# Altium schematic symbol library PCB_sch.SchLib: 14 symbols
Pins are listed as number, name and electrical type; pins without a type are passive.

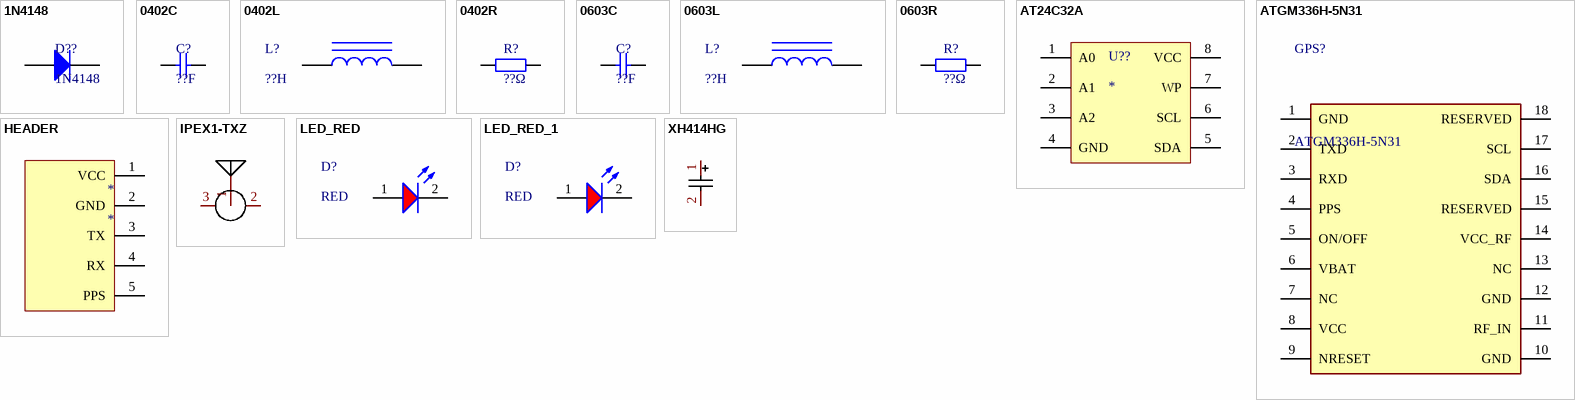
[diagram p0: symbols 1N4148 to XH414HG]

## 1N4148
designator D??
diode; ComponentLink1Description: 供应商链接; ComponentLink1URL: http://www.szlcsc.com/product/details_2485.html; Package: SOD-323; Supplier: LC; SuppliersPartNumber: C2128
footprint 1N4148
pins: 1 A, 2 K

## 0402C
designator C?, comment ??F
capacitance
footprint 0402_C (无极性贴片电容)
pins: 1, 2

## 0402L
designator L?, comment ??H
inductance; ComponentLink1Description: 供应商链接; ComponentLink1URL: http://www.szlcsc.com/product/details_1398.html; Package: 0805; Supplier: LC; SuppliersPartNumber: C1046
footprint 0402_L
pins: 1, 2

## 0402R
designator R?, comment ??Ω
resistance; ComponentLink1Description: 供应商链接; ComponentLink1URL: http://www.szlcsc.com/product/details_26562.html; Package: 0603; Supplier: LC; SuppliersPartNumber: C25819
footprint 0402_R (1/16W贴片电阻)
pins: 1, 2

## 0603C
designator C?, comment ??F
capacitance
footprint 0603_C (无极性贴片电容)
pins: 1, 2

## 0603L
designator L?, comment ??H
inductance; ComponentLink1Description: 供应商链接; ComponentLink1URL: http://www.szlcsc.com/product/details_1398.html; Package: 0805; Supplier: LC; SuppliersPartNumber: C1046
footprint 0603_L (小功率贴片电感)
pins: 1, 2

## 0603R
designator R?, comment ??Ω
resistance; ComponentLink1Description: 供应商链接; ComponentLink1URL: http://www.szlcsc.com/product/details_26562.html; Package: 0603; Supplier: LC; SuppliersPartNumber: C25819
footprint 0603_R
pins: 1, 2

## AT24C32A
designator U??
footprint AT24C32A (TSSOP-8_L3.0-W4.4-H1.0-LS6.4-P0.65)
pins: 1 A0, 2 A1, 3 A2, 4 GND, 5 SDA, 6 SCL, 7 WP, 8 VCC

## ATGM336H-5N31
designator GPS?
GSM & GPRS & GPS Modules 9.7X10.1mm RoHS; Manufacturer_Name: ZHONGKEWEI; Geometry.Height: 2.6mm; Manufacturer_Part_Number: ATGM336H-5N31; Mouser Part Number: *; Mouser Price/Stock: *; Arrow Part Number: *; Arrow Price/Stock: *; Datasheet Link: https://datasheet.lcsc.com/szlcsc/ZHONGKEWEI-ATGM336H-5N31_C90770.pdf
footprint ATGM336H-5N-31
pins: 1 GND, 2 TXD, 3 RXD, 4 PPS, 5 ON/OFF, 6 VBAT, 7 NC, 8 VCC, 9 NRESET, 10 GND, 11 RF_IN, 12 GND, 13 NC, 14 VCC_RF, 15 RESERVED, 16 SDA, 17 SCL, 18 RESERVED

## HEADER
designator *
footprint HEADER
pins: 1 VCC, 2 GND, 3 TX, 4 RX, 5 PPS

## IPEX1-TXZ
designator A??  (value not drawn)
Manufacturer: SHOU HAN(首韩); Name: IPEX1-TXZ 142; Add into BOM: yes; Symbol: IPEX1-TXZ 142; Device: IPEX1-TXZ 142; LCSC Part Name: IPEX天线座 内针 RF同轴连接器; Supplier Part: C3151745; Manufacturer Part: IPEX1-TXZ 142; Supplier Footprint: SMD; JLCPCB Part Class: Extended Part; Datasheet: https://atta.szlcsc.com/upload/public/pdf/source/20220627/A0C2EF411B6F3EC53ED1A4F491E26EB6.pdf; Supplier: LCSC; Convert to PCB: yes
footprint ipex1
pins: 1, 2, 3

## LED_RED
designator D?, comment RED
LED; ComponentLink1Description: 供应商链接; ComponentLink1URL: http://www.szlcsc.com/product/details_2659.html; Package: 0603; Supplier: LC; SuppliersPartNumber: C2286
footprint LED0402
pins: 1, 2

## LED_RED_1
designator D?, comment RED
LED; ComponentLink1Description: 供应商链接; ComponentLink1URL: http://www.szlcsc.com/product/details_2659.html; Package: 0603; Supplier: LC; SuppliersPartNumber: C2286
footprint LED0603
pins: 1, 2

## XH414HG
designator SC??, comment XH414HG-IV01E_C38065  (value not drawn)
super capicator; Manufacturer: ABLIC(艾普凌科); Name: 80000uF; Add into BOM: yes; Value: 80000uF; Rated Voltage: 3.3V; Cycle Life Expectancy: 10000; φD: 4.8mm; Symbol: XH414HG-IV01E; Device: XH414HG-IV01E_C38065; LCSC Part Name: 80000uF 3.3V; Supplier Part: C38065; Manufacturer Part: XH414HG-IV01E; Supplier Footprint: SMD,4.8x1.85mm; JLCPCB Part Class: Extended Part; Datasheet: https://atta.szlcsc.com/upload/public/pdf/source/20150910/1457707350979.pdf; Supplier: LCSC; Convert to PCB: yes; Equivalent Series Resistance(ESR): -; Leakage Current(DCL): -; Lifetime @ Temp: -; Operating Temperature: -20℃~+60℃; Body Height: -
footprint XH414HG
pins: 1, 2